# EAGLE library part GAYLE (library Amiga)
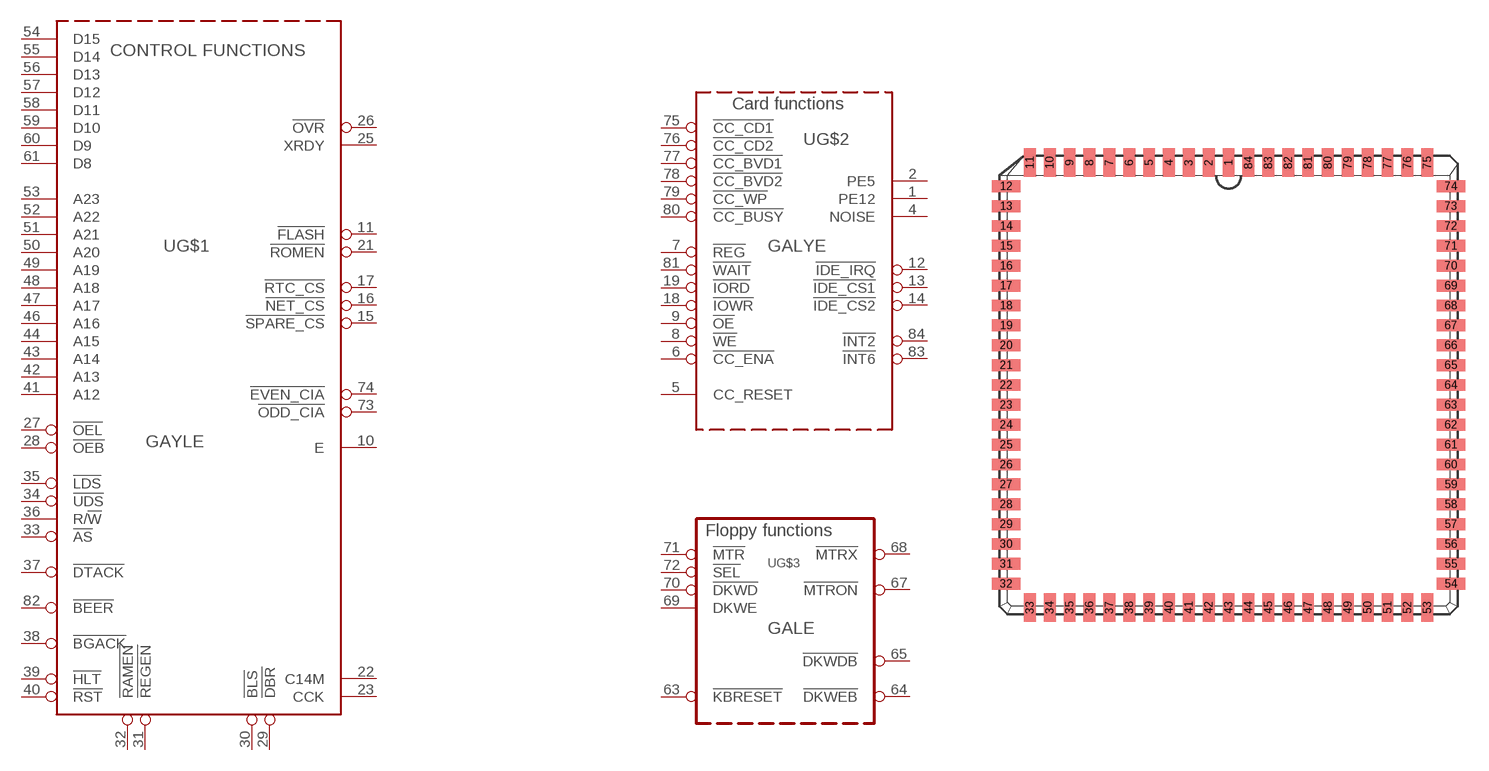
[diagram p40: symbol with the pads of PLCC84_S; footprint PLCC84_S]

Designator prefix -; gates G$1=GAYLE_CTRL G$2=GAYLE_CARD G$3=GAYLE_FLOPPY

## GAYLE_SMD  [PLCC84_S]
1  G$2:PE12  in
2  G$2:PE5  in
4  G$2:NOISE  in
5  G$2:CC_RESET  in
6  G$2:!CC_ENA  in
7  G$2:!REG  in
8  G$2:!WE  out
9  G$2:!OE  out
10  G$1:E
11  G$1:!FLASH
12  G$2:!IDE_IRQ  in
13  G$2:!IDE_CS1  out
14  G$2:!IDE_CS2  out
15  G$1:!SPARE_CS
16  G$1:!NET_CS
17  G$1:!RTC_CS
18  G$2:!IOWR  out
19  G$2:!IORD  out
21  G$1:!ROMEN
22  G$1:C14M
23  G$1:CCK
25  G$1:XRDY
26  G$1:!OVR
27  G$1:!OEL
28  G$1:!OEB
29  G$1:!DBR
30  G$1:!BLS
31  G$1:!REGEN
32  G$1:!RAMEN
33  G$1:!AS
34  G$1:!UDS
35  G$1:!LDS
36  G$1:R/!W
37  G$1:!DTACK
38  G$1:!BGACK
39  G$1:!HLT
40  G$1:!RST
41  G$1:A12
42  G$1:A13
43  G$1:A14
44  G$1:A15
46  G$1:A16
47  G$1:A17
48  G$1:A18
49  G$1:A19
50  G$1:A20
51  G$1:A21
52  G$1:A22
53  G$1:A23
54  G$1:D15
55  G$1:D14
56  G$1:D13
57  G$1:D12
58  G$1:D11
59  G$1:D10
60  G$1:D9
61  G$1:D8
63  G$3:!KBRESET  in
64  G$3:!DKWEB  out
65  G$3:!DKWDB  out
67  G$3:!MTRON  out
68  G$3:!MTRX  out
69  G$3:DKWE  in
70  G$3:!DKWD  in
71  G$3:!MTR  in
72  G$3:!SEL  in
73  G$1:!ODD_CIA
74  G$1:!EVEN_CIA
75  G$2:!CC_CD1  out
76  G$2:!CC_CD2  out
77  G$2:!CC_BVD1  out
78  G$2:!CC_BVD2  out
79  G$2:!CC_WP  out
80  G$2:!CC_BUSY  out
81  G$2:!WAIT  in
82  G$1:!BEER
83  G$2:!INT6  in
84  G$2:!INT2  in

## Footprint PLCC84_S (pad centres in mm)
PLASTIC LEADED CHIP CARRIER square
smd 0.76 x 1.8: 1 0,14.21; 2 -1.27,14.21; 3 -2.54,14.21; 4 -3.81,14.21; 5 -5.08,14.21; 6 -6.35,14.21; 7 -7.62,14.21; 8 -8.89,14.21; 9 -10.16,14.21; 10 -11.43,14.21; 11 -12.7,14.21; 33 -12.7,-14.21; 34 -11.43,-14.21; 35 -10.16,-14.21; 36 -8.89,-14.21; 37 -7.62,-14.21; 38 -6.35,-14.21; 39 -5.08,-14.21; 40 -3.81,-14.21; 41 -2.54,-14.21; 42 -1.27,-14.21; 43 0,-14.21; 44 1.27,-14.21; 45 2.54,-14.21; 46 3.81,-14.21; 47 5.08,-14.21; 48 6.35,-14.21; 49 7.62,-14.21; 50 8.89,-14.21; 51 10.16,-14.21; 52 11.43,-14.21; 53 12.7,-14.21; 75 12.7,14.21; 76 11.43,14.21; 77 10.16,14.21; 78 8.89,14.21; 79 7.62,14.21; 80 6.35,14.21; 81 5.08,14.21; 82 3.81,14.21; 83 2.54,14.21; 84 1.27,14.21
smd 1.8 x 0.76: 12 -14.21,12.7; 13 -14.21,11.43; 14 -14.21,10.16; 15 -14.21,8.89; 16 -14.21,7.62; 17 -14.21,6.35; 18 -14.21,5.08; 19 -14.21,3.81; 20 -14.21,2.54; 21 -14.21,1.27; 22 -14.21,0; 23 -14.21,-1.27; 24 -14.21,-2.54; 25 -14.21,-3.81; 26 -14.21,-5.08; 27 -14.21,-6.35; 28 -14.21,-7.62; 29 -14.21,-8.89; 30 -14.21,-10.16; 31 -14.21,-11.43; 32 -14.21,-12.7; 54 14.21,-12.7; 55 14.21,-11.43; 56 14.21,-10.16; 57 14.21,-8.89; 58 14.21,-7.62; 59 14.21,-6.35; 60 14.21,-5.08; 61 14.21,-3.81; 62 14.21,-2.54; 63 14.21,-1.27; 64 14.21,0; 65 14.21,1.27; 66 14.21,2.54; 67 14.21,3.81; 68 14.21,5.08; 69 14.21,6.35; 70 14.21,7.62; 71 14.21,8.89; 72 14.21,10.16; 73 14.21,11.43; 74 14.21,12.7